# Altium footprint library usb_type_b_ds1099.PcbLib: 1 footprints
Each footprint in its own frame and in the unit in brackets; x right, y up, seen from the top. Pads: shape width x height; smd on the part's side, far side on the other; paste and mask are expansions set on the pad; w line width, h text height; cw(c..) or ccw(c..) is an arc to the next point about the centre after c.
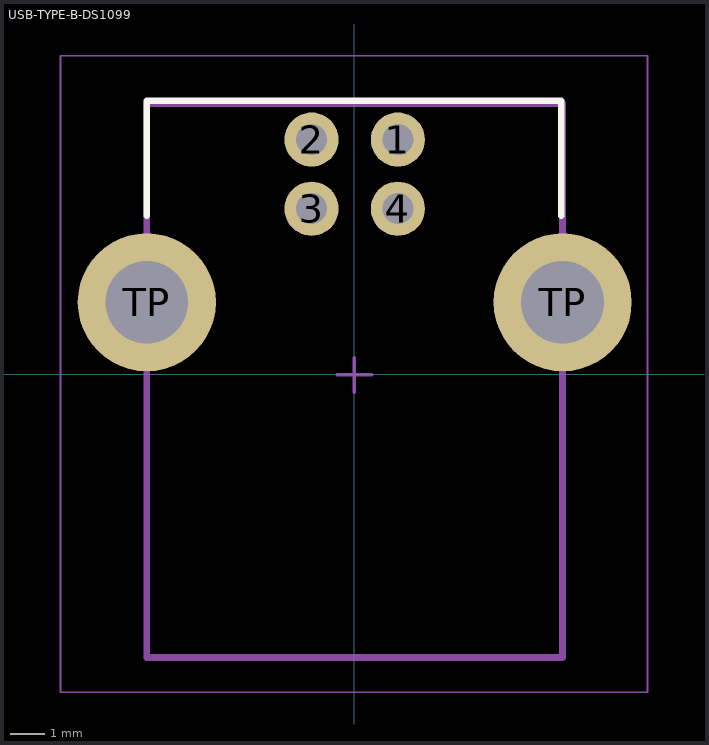
[diagram p0: the footprint, top view; thin cyan lines are the x and y axes]

## USB-TYPE-B-DS1099 [mm]
height 11
pads (6):
  round 1.57 hole 0.9: 1(1.27,6.798) 2(-1.23,6.798) 3(-1.23,4.798) 4(1.27,4.798)
  round 4 hole 2.4: TP(-6,2.088) TP(6.04,2.088)
Top Overlay:
  lines w0.2: -6,4.6 -6,7.925 6,7.925 6,4.6
Mechanical 6:
  text ".Comment" at -1.682,-0.325 h1.2
Mechanical 9:
  text ".Designator" at -2.27,0.409 h1.5
Mechanical 11:
  lines w0.2: -6,-8.2 6.04,-8.2 6.04,7.85 -6,7.85 -6,-8.2
Mechanical 15:
  lines w0.05: -8.5,-9.2 8.5,-9.2 8.5,9.225 -8.5,9.225 -8.5,-9.2
  lines w0.1: -0.492,-0.012 0.508,-0.012 ; 0.008,-0.512 0.008,0.488
3D body "User Library-Samtec - USB-B-S-X-W-TH.STEP": height 11, standoff -3.64, extent -7.399,-8.275 7.399,8.225